# Altium footprint library LED_THT.PcbLib: 82 footprints (part 4 of 6)
Each footprint in its own frame and in the unit in brackets; x right, y up, seen from the top. Pads: shape width x height; smd on the part's side, far side on the other; paste and mask are expansions set on the pad; w line width, h text height; cw(c..) or ccw(c..) is an arc to the next point about the centre after c.
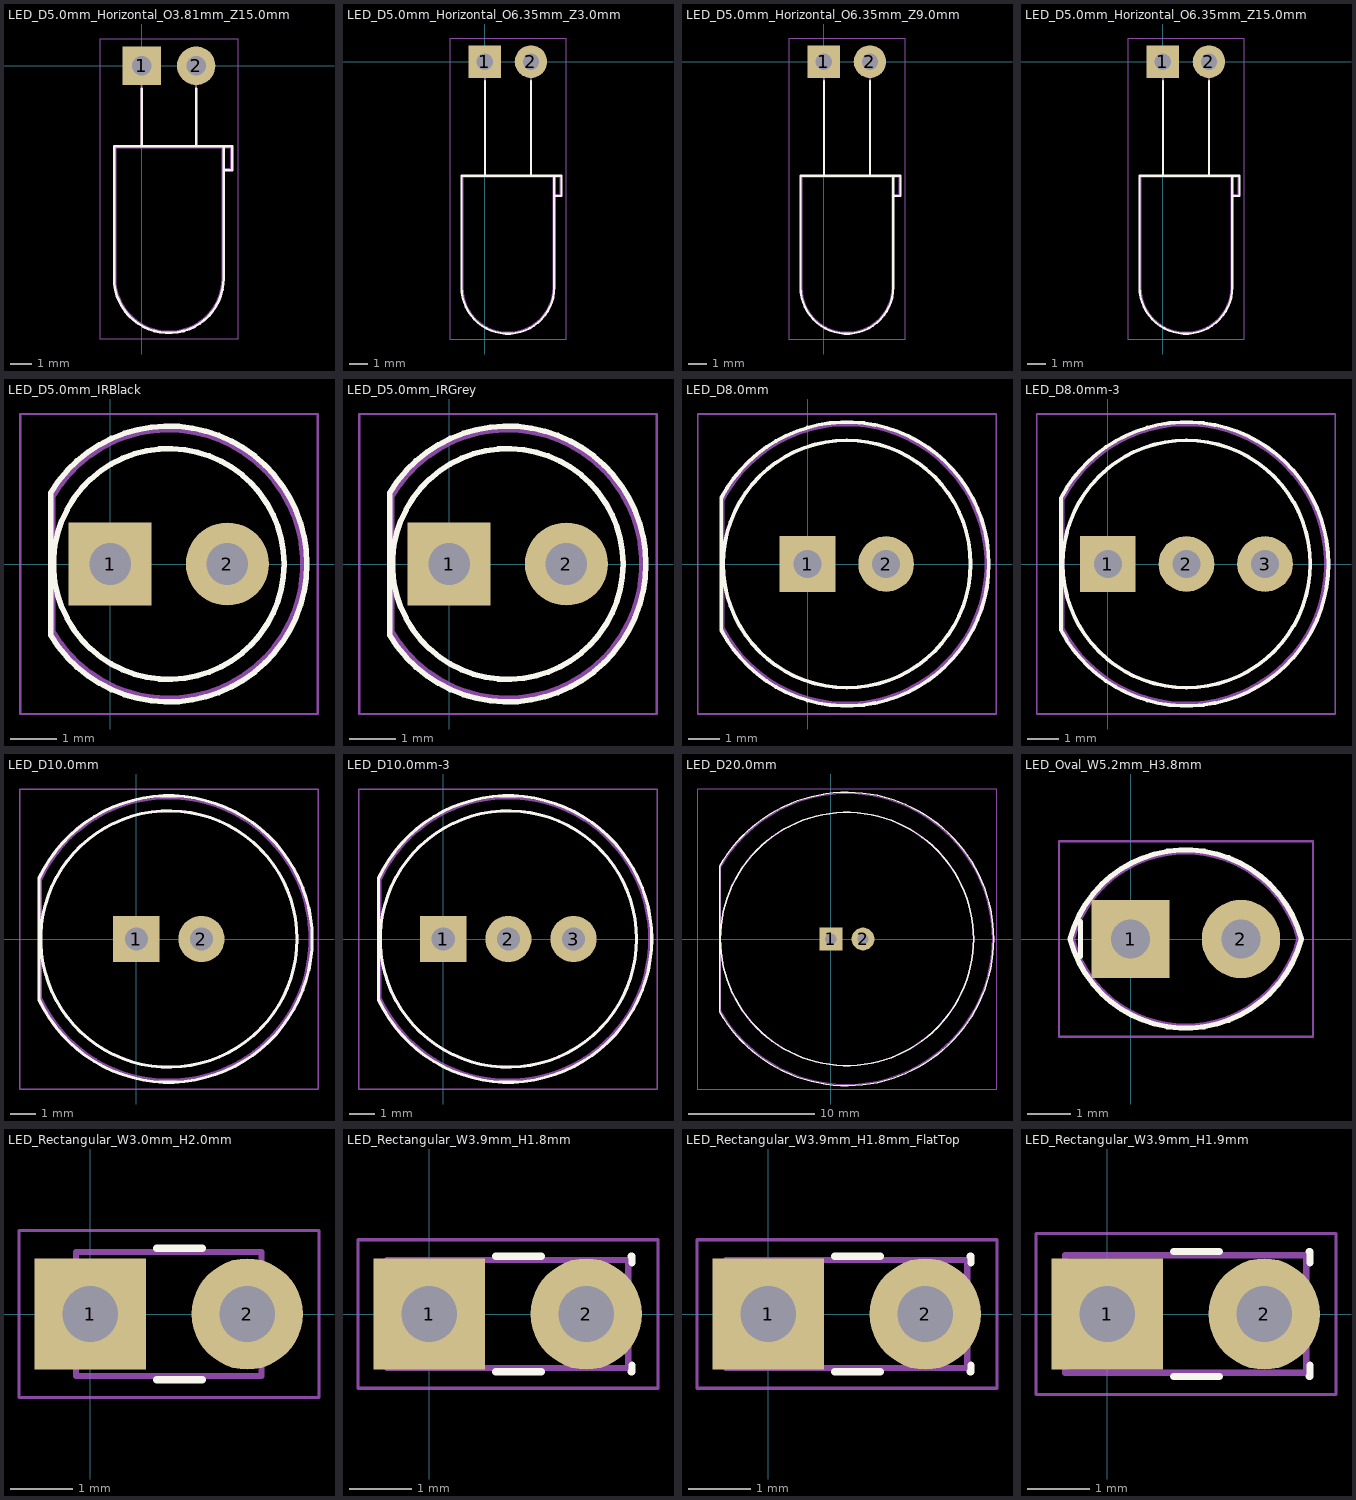
[diagram p3: the footprints below, top view; thin cyan lines are the x and y axes]

## LED_D5.0mm_Horizontal_O3.81mm_Z15.0mm [mm]
pads (2):
  rect 1.8x1.8 hole 0.9: 1(0,0)
  round 1.8 hole 0.9: 2(2.54,0)
F.SilkS:
  lines w0.12: 3.83,-3.75 4.23,-3.75 4.23,-4.87 3.83,-4.87 3.83,-3.75 ; 3.83,-3.75 -1.29,-3.75 -1.29,-9.91 ccw(c1.27,-9.91) 3.83,-9.91 3.83,-3.75 ; 0,-3.75 0,-1.08 0,-3.75 ; 2.54,-3.75 2.54,-1.08 2.54,-3.75
F.CrtYd:
  lines w0.05: -1.95,-12.75 4.5,-12.75 4.5,1.25 -1.95,1.25 -1.95,-12.75
F.Fab:
  lines w0.1: 3.77,-3.81 3.77,-9.91 cw(c1.27,-9.91) -1.23,-9.91 -1.23,-3.81 3.77,-3.81 ; 3.77,-3.81 3.77,-4.81 4.17,-4.81 4.17,-3.81 3.77,-3.81 ; 0,-3.81 0,0 0,-3.81 ; 2.54,-3.81 2.54,0 2.54,-3.81

## LED_D5.0mm_Horizontal_O6.35mm_Z3.0mm [mm]
pads (2):
  rect 1.8x1.8 hole 0.9: 1(0,0)
  round 1.8 hole 0.9: 2(2.54,0)
F.SilkS:
  lines w0.12: 3.83,-6.29 4.23,-6.29 4.23,-7.41 3.83,-7.41 3.83,-6.29 ; 3.83,-6.29 -1.29,-6.29 -1.29,-12.45 ccw(c1.27,-12.45) 3.83,-12.45 3.83,-6.29 ; 0,-6.29 0,-1.08 0,-6.29 ; 2.54,-6.29 2.54,-1.08 2.54,-6.29
F.CrtYd:
  lines w0.05: -1.95,-15.3 -1.95,1.25 4.5,1.25 4.5,-15.3 -1.95,-15.3
F.Fab:
  lines w0.1: 3.77,-6.35 3.77,-12.45 cw(c1.27,-12.45) -1.23,-12.45 -1.23,-6.35 3.77,-6.35 ; 3.77,-6.35 3.77,-7.35 4.17,-7.35 4.17,-6.35 3.77,-6.35 ; 0,-6.35 0,0 0,-6.35 ; 2.54,-6.35 2.54,0 2.54,-6.35

## LED_D5.0mm_Horizontal_O6.35mm_Z9.0mm [mm]
pads (2):
  rect 1.8x1.8 hole 0.9: 1(0,0)
  round 1.8 hole 0.9: 2(2.54,0)
F.SilkS:
  lines w0.12: 3.83,-6.29 -1.29,-6.29 -1.29,-12.45 ccw(c1.27,-12.45) 3.83,-12.45 3.83,-6.29 ; 3.83,-6.29 4.23,-6.29 4.23,-7.41 3.83,-7.41 3.83,-6.29 ; 0,-6.29 0,-1.08 0,-6.29 ; 2.54,-6.29 2.54,-1.08 2.54,-6.29
F.CrtYd:
  lines w0.05: -1.95,-15.3 -1.95,1.25 4.5,1.25 4.5,-15.3 -1.95,-15.3
F.Fab:
  lines w0.1: 3.77,-6.35 3.77,-7.35 4.17,-7.35 4.17,-6.35 3.77,-6.35 ; 3.77,-6.35 -1.23,-6.35 -1.23,-12.45 ccw(c1.27,-12.45) 3.77,-12.45 3.77,-6.35 ; 0,-6.35 0,0 0,-6.35 ; 2.54,-6.35 2.54,0 2.54,-6.35

## LED_D5.0mm_Horizontal_O6.35mm_Z15.0mm [mm]
pads (2):
  rect 1.8x1.8 hole 0.9: 1(0,0)
  round 1.8 hole 0.9: 2(2.54,0)
F.SilkS:
  lines w0.12: 3.83,-6.29 4.23,-6.29 4.23,-7.41 3.83,-7.41 3.83,-6.29 ; 3.83,-6.29 -1.29,-6.29 -1.29,-12.45 ccw(c1.27,-12.45) 3.83,-12.45 3.83,-6.29 ; 0,-6.29 0,-1.08 0,-6.29 ; 2.54,-6.29 2.54,-1.08 2.54,-6.29
F.CrtYd:
  lines w0.05: -1.95,-15.3 4.5,-15.3 4.5,1.25 -1.95,1.25 -1.95,-15.3
F.Fab:
  lines w0.1: 3.77,-6.35 3.77,-7.35 4.17,-7.35 4.17,-6.35 3.77,-6.35 ; 3.77,-6.35 3.77,-12.45 cw(c1.27,-12.45) -1.23,-12.45 -1.23,-6.35 3.77,-6.35 ; 0,-6.35 0,0 0,-6.35 ; 2.54,-6.35 2.54,0 2.54,-6.35

## LED_D5.0mm_IRBlack [mm]
pads (2):
  rect 1.8x1.8 hole 0.9: 1(0,0)
  round 1.8 hole 0.9: 2(2.54,0)
F.SilkS:
  circle w0.12: c1.27,0 r2.5
  lines w0.12: -1.29,-1.545 -1.29,1.545 ; -1.29,-1.545 ccw(c1.27,0) 4.26,0 ccw(c1.27,0) -1.29,1.545
F.CrtYd:
  lines w0.05: -1.95,-3.25 -1.95,3.25 4.5,3.25 4.5,-3.25 -1.95,-3.25
F.Fab:
  circle w0.1: c1.27,0 r2.5
  lines w0.1: -1.23,-1.47 -1.23,1.47 cw(c1.27,0) -1.23,-1.47
  text "'.Designator'" at -2.067,-0.752 h0.8

## LED_D5.0mm_IRGrey [mm]
pads (2):
  rect 1.8x1.8 hole 0.9: 1(0,0)
  round 1.8 hole 0.9: 2(2.54,0)
F.SilkS:
  circle w0.12: c1.27,0 r2.5
  lines w0.12: -1.29,-1.545 -1.29,1.545 ; -1.29,-1.545 ccw(c1.27,0) 4.26,0 ccw(c1.27,0) -1.29,1.545
F.CrtYd:
  lines w0.05: -1.95,-3.25 -1.95,3.25 4.5,3.25 4.5,-3.25 -1.95,-3.25
F.Fab:
  circle w0.1: c1.27,0 r2.5
  lines w0.1: -1.23,-1.47 -1.23,1.47 cw(c1.27,0) -1.23,-1.47
  text "'.Designator'" at -2.067,-0.752 h0.8

## LED_D8.0mm [mm]
pads (2):
  rect 1.8x1.8 hole 0.9: 1(0,0)
  round 1.8 hole 0.9: 2(2.54,0)
F.SilkS:
  circle w0.12: c1.27,0 r4
  lines w0.12: -2.79,-2.142 -2.79,2.142 ; -2.79,-2.141 ccw(c1.27,0) 5.86,0 ccw(c1.27,0) -2.79,2.141
F.CrtYd:
  lines w0.05: -3.55,-4.85 6.1,-4.85 6.1,4.85 -3.55,4.85 -3.55,-4.85
F.Fab:
  circle w0.1: c1.27,0 r4
  lines w0.1: -2.731,-2.059 ccw(c1.27,0) -2.73,2.062 -2.73,-2.062

## LED_D8.0mm-3 [mm]
pads (3):
  rect 1.8x1.8 hole 0.9: 1(0,0)
  round 1.8 hole 0.9: 2(2.54,0) 3(5.08,0)
F.SilkS:
  circle w0.12: c2.54,0 r4
  lines w0.12: -1.52,-2.142 -1.52,2.142 ; -1.52,-2.141 ccw(c2.54,0) 7.13,0 ccw(c2.54,0) -1.52,2.141
F.CrtYd:
  lines w0.05: -2.3,-4.85 -2.3,4.85 7.35,4.85 7.35,-4.85 -2.3,-4.85
F.Fab:
  circle w0.1: c2.54,0 r4
  lines w0.1: -1.461,-2.059 ccw(c2.54,0) -1.46,2.062 -1.46,-2.062

## LED_D10.0mm [mm]
pads (2):
  rect 1.8x1.8 hole 0.9: 1(0,0)
  round 1.8 hole 0.9: 2(2.54,0)
F.SilkS:
  circle w0.12: c1.27,0 r5
  lines w0.12: 6.86,-0.005 cw(c1.27,0) -3.79,-2.376 -3.79,2.376 cw(c1.27,0) 6.86,0.005
F.CrtYd:
  lines w0.05: -4.55,-5.85 -4.55,5.85 7.1,5.85 7.1,-5.85 -4.55,-5.85
F.Fab:
  circle w0.1: c1.27,0 r5
  lines w0.1: -3.732,-2.288 ccw(c1.27,0) -3.73,2.291 -3.73,-2.291

## LED_D10.0mm-3 [mm]
pads (3):
  rect 1.8x1.8 hole 0.9: 1(0,0)
  round 1.8 hole 0.9: 2(2.54,0) 3(5.08,0)
F.SilkS:
  circle w0.12: c2.54,0 r5
  lines w0.12: 8.13,-0.005 cw(c2.54,0) -2.52,-2.376 -2.52,2.376 cw(c2.54,0) 8.13,0.005
F.CrtYd:
  lines w0.05: -3.3,-5.85 -3.3,5.85 8.35,5.85 8.35,-5.85 -3.3,-5.85
F.Fab:
  circle w0.1: c2.54,0 r5
  lines w0.1: -2.462,-2.288 ccw(c2.54,0) -2.46,2.291 -2.46,-2.291

## LED_D20.0mm [mm]
pads (2):
  rect 1.8x1.8 hole 0.9: 1(0,0)
  round 1.8 hole 0.9: 2(2.54,0)
F.SilkS:
  circle w0.12: c1.27,0 r10
  lines w0.12: 12.86,-0.005 cw(c1.27,0) -8.79,-5.755 -8.79,5.756 cw(c1.27,0) 12.86,0.005
F.CrtYd:
  lines w0.05: -10.55,-11.85 -10.55,11.85 13.1,11.85 13.1,-11.85 -10.55,-11.85
F.Fab:
  circle w0.1: c1.27,0 r10
  lines w0.1: -8.73,-5.679 -8.73,5.679 cw(c1.27,0) -8.728,-5.682

## LED_Oval_W5.2mm_H3.8mm [mm]
pads (2):
  rect 1.8x1.8 hole 0.9: 1(0,0)
  round 1.8 hole 0.9: 2(2.54,0)
F.SilkS:
  lines w0.12: -1.15,-0.405 -1.15,0.405 ; -1.39,0 cw(c1.27,-0.7) 3.93,0.001 cw(c1.27,0.7) -1.39,0
F.CrtYd:
  lines w0.05: -1.65,-2.25 -1.65,2.25 4.2,2.25 4.2,-2.25 -1.65,-2.25
F.Fab:
  lines w0.1: 3.87,-0.002 ccw(c1.27,-0.7) -1.33,0 ccw(c1.27,0.7) 3.87,0.002

## LED_Rectangular_W3.0mm_H2.0mm [mm]
pads (2):
  rect 1.8x1.8 hole 0.9: 1(0,0)
  round 1.8 hole 0.9: 2(2.54,0)
F.SilkS:
  lines w0.12: 1.08,-1.06 1.811,-1.06 ; 1.08,1.06 1.811,1.06
F.CrtYd:
  lines w0.05: -1.15,-1.35 3.7,-1.35 3.7,1.35 -1.15,1.35 -1.15,-1.35
F.Fab:
  lines w0.1: -0.23,-1 2.77,-1 2.77,1 -0.23,1 -0.23,-1

## LED_Rectangular_W3.9mm_H1.8mm [mm]
pads (2):
  rect 1.8x1.8 hole 0.9: 1(0,0)
  round 1.8 hole 0.9: 2(2.54,0)
F.SilkS:
  lines w0.12: 1.08,-0.935 1.811,-0.935 ; 1.08,0.935 1.811,0.935 ; 3.27,-0.935 3.28,-0.935 3.28,-0.825 ; 3.27,0.935 3.28,0.935 3.28,0.825
F.CrtYd:
  lines w0.05: -1.15,-1.2 3.7,-1.2 3.7,1.2 -1.15,1.2 -1.15,-1.2
F.Fab:
  lines w0.1: -0.68,-0.875 -0.68,0.875 3.22,0.875 3.22,-0.875 -0.68,-0.875

## LED_Rectangular_W3.9mm_H1.8mm_FlatTop [mm]
pads (2):
  rect 1.8x1.8 hole 0.9: 1(0,0)
  round 1.8 hole 0.9: 2(2.54,0)
F.SilkS:
  lines w0.12: 1.08,-0.935 1.811,-0.935 ; 1.08,0.935 1.811,0.935 ; 3.27,-0.935 3.28,-0.935 3.28,-0.825 ; 3.27,0.935 3.28,0.935 3.28,0.825
F.CrtYd:
  lines w0.05: -1.15,-1.2 -1.15,1.2 3.7,1.2 3.7,-1.2 -1.15,-1.2
F.Fab:
  lines w0.1: -0.68,-0.875 -0.68,0.875 3.22,0.875 3.22,-0.875 -0.68,-0.875

## LED_Rectangular_W3.9mm_H1.9mm [mm]
pads (2):
  rect 1.8x1.8 hole 0.9: 1(0,0)
  round 1.8 hole 0.9: 2(2.54,0)
F.SilkS:
  lines w0.12: 1.08,-1.01 1.811,-1.01 ; 1.08,1.01 1.811,1.01 ; 3.27,-1.01 3.28,-1.01 3.28,-0.825 ; 3.27,1.01 3.28,1.01 3.28,0.825
F.CrtYd:
  lines w0.05: -1.15,-1.3 3.7,-1.3 3.7,1.3 -1.15,1.3 -1.15,-1.3
F.Fab:
  lines w0.1: -0.68,-0.95 3.22,-0.95 3.22,0.95 -0.68,0.95 -0.68,-0.95